# Altium footprint library CASE-B.PcbLib: 1 footprints
Each footprint in its own frame and in the unit in brackets; x right, y up, seen from the top. Pads: shape width x height; smd on the part's side, far side on the other; paste and mask are expansions set on the pad; w line width, h text height; cw(c..) or ccw(c..) is an arc to the next point about the centre after c.
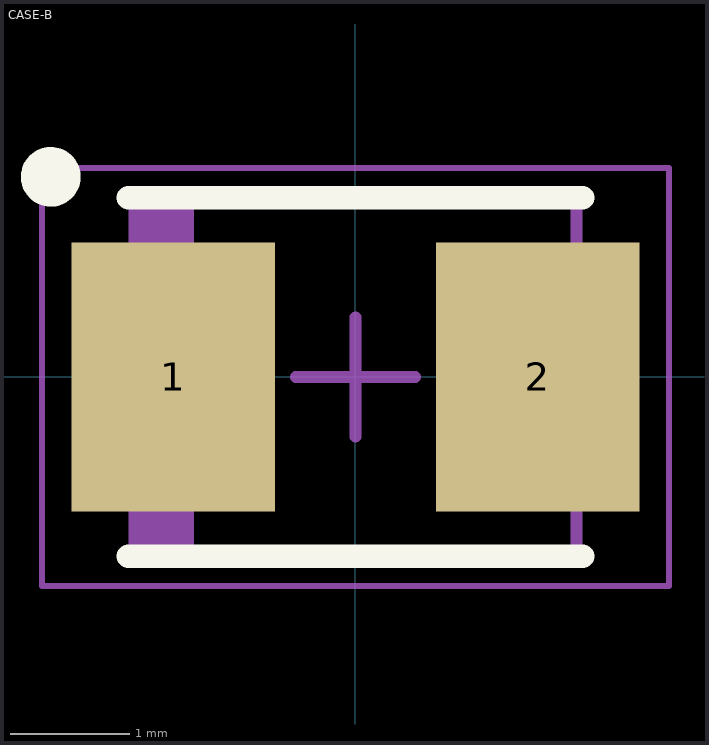
[diagram p0: the footprint, top view; thin cyan lines are the x and y axes]

## CASE-B [mm] "Molded Capacitor, 2-Leads, Body 3,60x2,90mm, IPC Medium Density"
height 2
pads (2):
  rect 1.7x2.25 smd: 1(-1.525,0) 2(1.525,0)
Top Overlay:
  circle w0.25: c-2.55,1.675 r0.125
  lines w0.2: -1.9,-1.5 1.9,-1.5 ; -1.9,1.5 1.9,1.5
TopAssy:
  rectangle: -1.85,-1.5 -1.352,1.5
  lines w0.1: -1.85,-1.5 1.85,-1.5 1.85,1.5 -1.85,1.5 -1.85,-1.5
Mechanical 15:
  lines w0.05: -2.625,-1.75 2.625,-1.75 2.625,1.75 -2.625,1.75 -2.625,-1.75
  lines w0.1: -0.5,0 0.5,0 ; 0,-0.5 0,0.5
3D body "CHIP_TANT_B.step": height 2, standoff 0, extent -2.07,-1.5 2.07,1.5